# EAGLE library part LTC3129 (library squirrel)
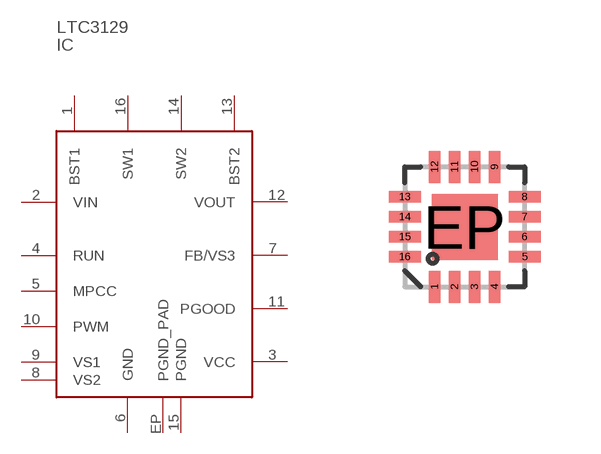
[diagram p6: symbol with the pads of QFN-16; footprint QFN-16]

Designator prefix IC

## LTC3129  [QFN-16]
1  BST1
2  VIN
3  VCC
4  RUN
5  MPCC
6  GND
7  FB/VS3
8  VS2
9  VS1
10  PWM
11  PGOOD
12  VOUT
13  BST2
14  SW2
15  PGND
16  SW1
EP  PGND_PAD

## Footprint QFN-16 (pad centres in mm)
smd 0.285 x 0.8: 1 -1.75,-2.5; 2 -1.25,-2.5; 3 -0.75,-2.5; 4 -0.25,-2.5; 9 -0.25,0.5; 10 -0.75,0.5; 11 -1.25,0.5; 12 -1.75,0.5
smd 0.8 x 0.285: 5 0.5,-1.75; 6 0.5,-1.25; 7 0.5,-0.75; 8 0.5,-0.25; 13 -2.5,-0.25; 14 -2.5,-0.75; 15 -2.5,-1.25; 16 -2.5,-1.75
smd 1.65 x 1.65: EP -1,-1